# EAGLE library part LIS2DW12 (library LIS2DW12)
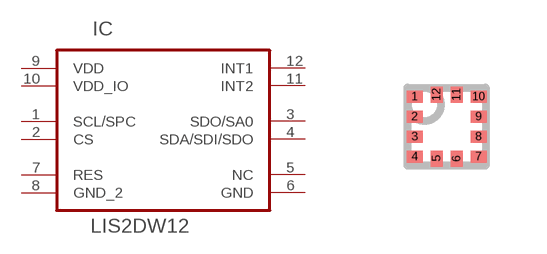
[diagram p0: symbol with the pads of LGA-12; footprint LGA-12]

Designator prefix IC

## LIS2DW12 (Availability: Unavailable; Description: Accelerometer X, Y, Z Axis ±2g, 4g, 8g, 16g 400Hz 12-LGA (2x2); MF: STMicroelectronics; MP: LIS2DW12; Package: LGA-12 STMicroelectronics; Price: None)  [LGA-12]
1  SCL/SPC  pas
2  CS  pas
3  SDO/SA0  out
4  SDA/SDI/SDO  out
5  NC  pas
6  GND  pwr
7  RES  pas
8  GND_2  nc
9  VDD  pwr
10  VDD_IO  pwr
11  INT2  pas
12  INT1  pas

## Footprint LGA-12 (pad centres in mm)
smd 0.4 x 0.3: 1 -0.8,0.75; 2 -0.8,0.25; 3 -0.8,-0.25; 4 -0.8,-0.75; 7 0.8,-0.75; 8 0.8,-0.25; 9 0.8,0.25; 10 0.8,0.75
smd 0.3 x 0.4: 5 -0.25,-0.8; 6 0.25,-0.8; 11 0.25,0.8; 12 -0.25,0.8